# Altium schematic symbol library Transducer.SchLib: 1 symbol
Pins are listed as number, name and electrical type; pins without a type are passive.

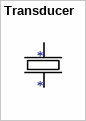
[diagram p0: symbol Transducer]

## Transducer
designator *
footprint Transducer
pins: 1, 2